# EAGLE library part RJ11-6 (library SteveMarple)
RJ11 Jack Simple 6 pin RJ11 jack. Commonly found on CAT3 devices and Microchip programmers. SKU: PRT-00132
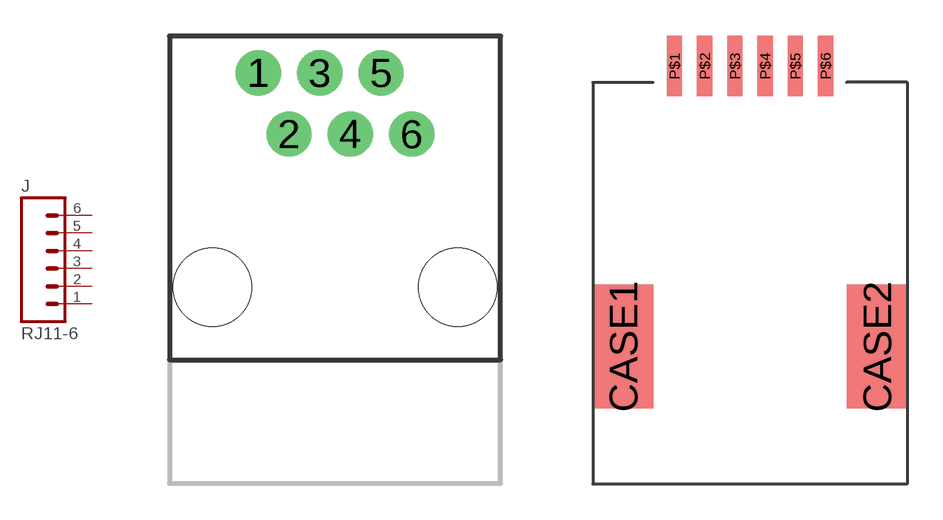
[diagram p33: symbol with the pads of RJ11-6; footprints RJ11-6, RJ45-MOLEX-44144-6P6C]

Designator prefix J

## RJ11-6PTH  [RJ11-6]
1  1  pas
2  2  pas
3  3  pas
4  4  pas
5  5  pas
6  6  pas

## RJ11-6MOLEX-44144-6P6C  [RJ45-MOLEX-44144-6P6C]
P$1  1  pas
P$2  2  pas
P$3  3  pas
P$4  4  pas
P$5  5  pas
P$6  6  pas

## RJ11-644144-6P6C-HAND  [RJ45-MOLEX-44144-6P6C-HAND]
Pads as for RJ45-MOLEX-44144-6P6C

## Footprint RJ11-6 (pad centres in mm)
drill 1.016 pad 1.88: 1 1.905,8.89; 2 3.175,6.35; 3 4.445,8.89; 4 5.715,6.35; 5 6.985,8.89; 6 8.255,6.35
hole 3.251 at 0,0
hole 3.251 at 10.16,0

## Footprint RJ45-MOLEX-44144-6P6C (pad centres in mm)
smd 2.54 x 5.207: CASE1 -5.334,-11.113; CASE2 5.334,-11.113
smd 0.635 x 2.54: P$1 -3.175,0.686; P$2 -1.905,0.686; P$3 -0.635,0.686; P$4 0.635,0.686; P$5 1.905,0.686; P$6 3.175,0.686

## Footprint RJ45-MOLEX-44144-6P6C-HAND (pad centres in mm)
smd 5.08 x 5.207: CASE1 -6.604,-11.113; CASE2 6.604,-11.113
smd 0.635 x 3.81: P$1 -3.175,1.321; P$2 -1.905,1.321; P$3 -0.635,1.321; P$4 0.635,1.321; P$5 1.905,1.321; P$6 3.175,1.321